# Altium footprint library GCJ21BR71E225KA01L.PcbLib: 4 footprints
Each footprint in its own frame and in the unit in brackets; x right, y up, seen from the top. Pads: shape width x height; smd on the part's side, far side on the other; paste and mask are expansions set on the pad; w line width, h text height; cw(c..) or ccw(c..) is an arc to the next point about the centre after c.
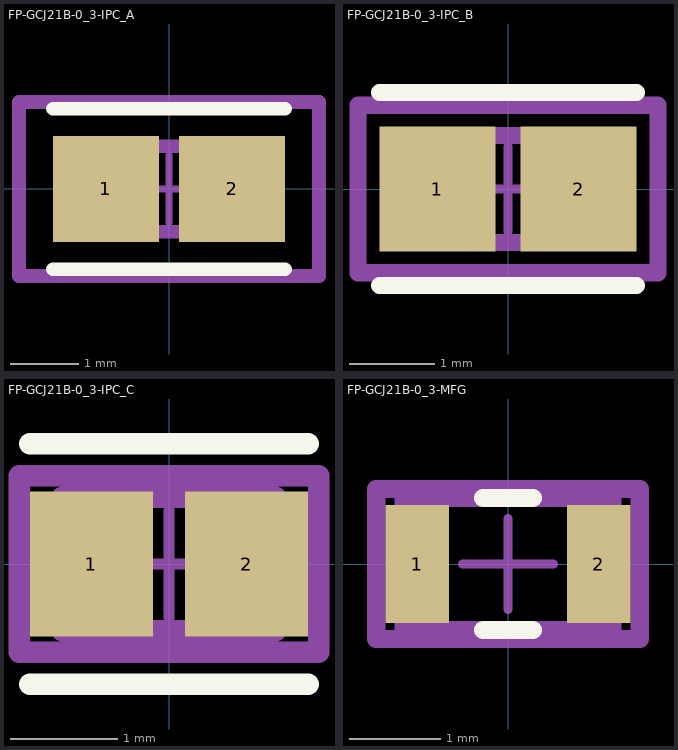
[diagram p0: the footprints below, top view; thin cyan lines are the x and y axes]

## FP-GCJ21B-0_3-IPC_A [mm]
pads (2):
  rect 1.553x1.556 smd paste+0 mask+0: 1(-0.925,0) 2(0.925,0)
Top Overlay:
  lines w0.2: -1.702,-1.178 1.702,-1.178 ; -1.702,1.178 1.702,1.178
Top Assembly:
  lines w0.2: -2.202,-1.278 2.202,-1.278 2.202,1.278 -2.202,1.278 -2.202,-1.278
  text ".Designator" at 0,0.188 h1
Top 3D Body:
  lines w0.2: -1,-0.625 1,-0.625 1,0.625 -1,0.625 -1,-0.625
Top Courtyard:
  lines w0.2: -2.202,-1.278 2.202,-1.278 2.202,1.278 -2.202,1.278 -2.202,-1.278
Top Component Center:
  lines w0.1: -0.5,0 0.5,0 ; 0,-0.5 0,0.5
3D body "Cap_Murata_GCJ21BR71H105KA01K_eec.STEP": height 0.25, standoff 0, extent -2.202,-1.278 2.202,1.278

## FP-GCJ21B-0_3-IPC_B [mm]
pads (2):
  rect 1.353x1.456 smd paste+0 mask+0: 1(-0.825,0) 2(0.825,0)
Top Overlay:
  lines w0.2: -1.502,-1.128 1.502,-1.128 ; -1.502,1.128 1.502,1.128
Top Assembly:
  lines w0.2: -1.752,-0.978 1.752,-0.978 1.752,0.978 -1.752,0.978 -1.752,-0.978
  text ".Designator" at 0,0.188 h1
Top 3D Body:
  lines w0.2: -1,-0.625 1,-0.625 1,0.625 -1,0.625 -1,-0.625
Top Courtyard:
  lines w0.2: -1.752,-0.978 1.752,-0.978 1.752,0.978 -1.752,0.978 -1.752,-0.978
Top Component Center:
  lines w0.1: -0.5,0 0.5,0 ; 0,-0.5 0,0.5
3D body "Cap_Murata_GCJ21BR71H105KA01K_eec.STEP": height 0.25, standoff 0, extent -1.752,-0.978 1.752,0.978

## FP-GCJ21B-0_3-IPC_C [mm]
pads (2):
  rect 1.153x1.356 smd paste+0 mask+0: 1(-0.725,0) 2(0.725,0)
Top Overlay:
  lines w0.2: -1.302,-1.125 1.302,-1.125 ; -1.302,1.125 1.302,1.125
Top Assembly:
  lines w0.2: -1.402,-0.825 1.402,-0.825 1.402,0.825 -1.402,0.825 -1.402,-0.825
  text ".Designator" at 0,0.188 h1
Top 3D Body:
  lines w0.2: -1,-0.625 1,-0.625 1,0.625 -1,0.625 -1,-0.625
Top Courtyard:
  lines w0.2: -1.402,-0.825 1.402,-0.825 1.402,0.825 -1.402,0.825 -1.402,-0.825
Top Component Center:
  lines w0.1: -0.5,0 0.5,0 ; 0,-0.5 0,0.5
3D body "Cap_Murata_GCJ21BR71H105KA01K_eec.STEP": height 0.25, standoff 0, extent -1.402,-0.825 1.402,0.825

## FP-GCJ21B-0_3-MFG [mm]
pads (2):
  rect 0.7x1.3 smd paste+0 mask+0: 1(-1,0) 2(1,0)
Top Overlay:
  lines w0.2: -0.275,-0.725 0.275,-0.725 ; -0.275,0.725 0.275,0.725
Top Assembly:
  lines w0.2: -1.45,-0.825 1.45,-0.825 1.45,0.825 -1.45,0.825 -1.45,-0.825
  text ".Designator" at 0,0.188 h1
Top 3D Body:
  lines w0.2: -1.15,-0.725 1.15,-0.725 1.15,0.725 -1.15,0.725 -1.15,-0.725
Top Courtyard:
  lines w0.2: -1.45,-0.825 1.45,-0.825 1.45,0.825 -1.45,0.825 -1.45,-0.825
Top Component Center:
  lines w0.1: -0.5,0 0.5,0 ; 0,-0.5 0,0.5
3D body "Cap_Murata_GCJ21BR71H105KA01K_eec.STEP": height 0.25, standoff 0, extent -1.45,-0.825 1.45,0.825